# Altium schematic symbol library Schlib1.SchLib: 3 symbols
Pins are listed as number, name and electrical type; pins without a type are passive.

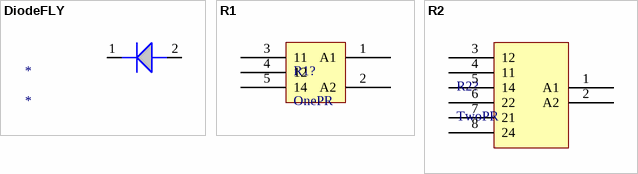
[diagram p0: symbols DiodeFLY to R2]

## DiodeFLY
designator *
pins: 1, 2

## R1
designator R1?, comment OnePR
pins: 1 A1, 2 A2, 3 11, 4 12, 5 14

## R2
designator R2?, comment TwoPR
pins: 1 A1, 2 A2, 3 12, 4 11, 5 14, 6 22, 7 21, 8 24